# Altium schematic symbol library Schlib1.SchLib: 8 symbols
Pins are listed as number, name and electrical type; pins without a type are passive.

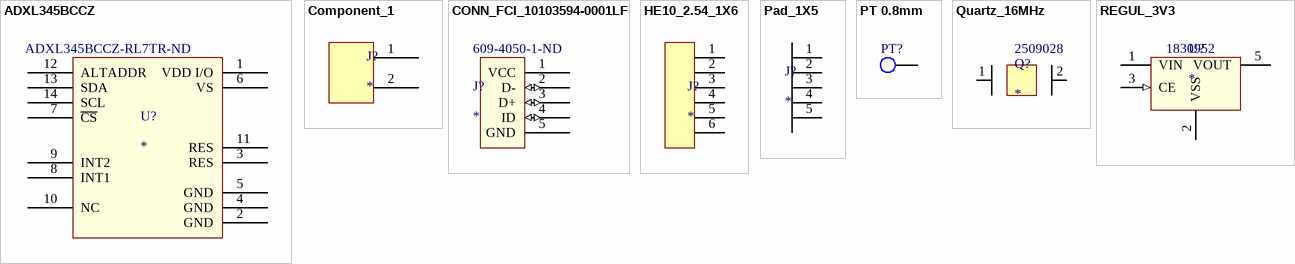
[diagram p0: symbols ADXL345BCCZ to REGUL_3V3]

## ADXL345BCCZ
designator U?  Supplier Part Number 1: ADXL345BCCZ-RL7TR-ND
Manufacturer: Analog Devices Inc.; Manufacturer Part Number: ADXL345BCCZ-RL7; Conditionnement: Bande et bobine; Statut de la pièce: Actif; Axe: X, Y, Z; Plage d’accélération: ±2g, 4g, 8g, 16g; Sensibilité (LSB/g): 256 (±2g) ~ 32 (±16g); Largeur de bande: 0,05Hz ~ 1,6kHz; Type de sortie: I²C, SPI; Alimentation en tension: 2 V ~ 3,6 V; Caractéristiques: Bande passante ajustable; Température d’utilisation: -40°C ~ 85°C (TA); Type de montage: Montage en surface; Boîtier: 14-VFLGA; Boîtier fournisseur: 14-LGA (3x5); Supplier 1: Digi-Key; RoHS: RoHS Compliant; Category: Capteurs, transducteurs; Stock 1: 1500; Pricing 1: 1500=3.64419, 3000=3.50922, 7500=3.37425, 10500=3.32233 (EUR); Type: Numérique; Sensibilité (mV/g): -; ComponentLink1URL: http://www.analog.com/media/en/technical-documentation/data-sheets/ADXL345.pdf; ComponentLink1Description: http://www.analog.com/media/en/technical-documentation/data-sheets/ADXL345.pdf
footprint PCBComponent_1 - duplicate1
pins: 1 VDD I/O (power), 2 GND (power), 3 RES (power), 4 GND (power), 5 GND (power), 6 VS (power), 7 ~{CS} (power), 8 INT1 (power), 9 INT2 (power), 10 NC, 11 RES, 12 ALTADDR, 13 SDA, 14 SCL

## Component_1
designator J?
Jumper 2.54mm hole
pins: 1, 2

## CONN_FCI_10103594-0001LF
designator J?  Supplier Part Number 1: 609-4050-1-ND
CONN MICROUSB FCI 10103594-0001LF; Manufacturer: Amphenol FCI; Conditionnement: Bande coupée (CT); Statut de la pièce: Actif; Type de connecteur: USB - micro B; Nombre de contacts: 5; Sexe: Prise; Spécifications: USB 2,0; Type de montage: Montage en surface à angle droit, horizontal; Caractéristiques: Blindé, soudure de maintien; Supplier 1: Digi-Key; Manufacturer Part Number: 10103594-0001LF; RoHS: RoHS Compliant; Category: Connecteurs, interconnexions; Stock 1: 68830; Pricing 1: 1=0.65, 10=0.609, 25=0.5492, 50=0.488, 100=0.4676, 250=0.42692, 500=0.4066 (EUR); Protection contre les entrées: -; ComponentLink1URL: http://portal.fciconnect.com/Comergent//fci/drawing/10103594.pdf; ComponentLink1Description: http://portal.fciconnect.com/Comergent//fci/drawing/10103594.pdf
footprint CONN_10103594-0001LF
pins: 1 VCC (power), 2 D- (io), 3 D+ (io), 4 ID (io), 5 GND (power)

## HE10_2.54_1X6
designator J?
footprint PCBComponent_1 - duplicate
pins: 1, 2, 3, 4, 5, 6

## Pad_1X5
designator J?
footprint PCBComponent_1
pins: 1, 2, 3, 4, 5

## PT 0.8mm
designator PT?  (value not drawn)
Point de test pastille 0.8mm
footprint Pastille_0.8mm
pins: 1

## Quartz_16MHz
designator Q?  Supplier Part Number 1: 2509028
Quartz 16MHz; Manufacturer: RALTRON; Manufacturer Part Number: AS-16.000-18-SMD; Supplier 1: Farnell; RoHS: YES; Stock 1: 207; Pricing 1: 1=0,455, 5=0,452, 10=0,45, 20=0,447, 40=0,439, 100=0,369, 500=0,318, 1000=0,267 (EUR); ComponentLink1URL: http://www.farnell.com/datasheets/1998828.pdf; ComponentLink1Description: http://www.farnell.com/datasheets/1998828.pdf
footprint PCBComponent_1 - duplicate2
pins: 1, 2

## REGUL_3V3
designator U?  Supplier Part Number 1: 1830952
Manufacturer: TOREX; Manufacturer Part Number: XC6222D331MR-G; Description: TOREX - XC6222D331MR-G - IC, LDO, 700MA, 3.3V, SOT-25; Supplier 1: Farnell; RoHS: YES; Stock 1: 3119; Pricing 1: 1=0,747, 10=0,606, 100=0,485, 250=0,417, 500=0,367, 1000=0,34, 2000=0,332, 5000=0,323 (EUR); ComponentLink1URL: http://www.farnell.com/datasheets/2012851.pdf; ComponentLink1Description: http://www.farnell.com/datasheets/2012851.pdf
footprint SOIC95P280X130-5
pins: 1 VIN (power), 2 VSS (power), 3 CE (in), 4 NC hidden, 5 VOUT (power)